# EAGLE library part MAX17043 (library SomTest1)
MAX17043X+T10 9-UCSP (W91C1+1) package https://www.mouser.com/ProductDetail/Maxim-Integrated/MAX17043X%2bT10?qs=sGAEpiMZZMtKiEBa%2FXu9%252BOav9R4qKwGZ Connect CTG and QSTRT to GND. /ALRT is output can leave unconnected.
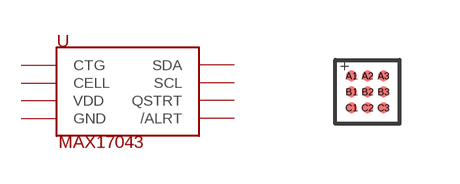
[diagram p1: symbol with the pads of 9UCSP-MAXIM; footprint 9UCSP-MAXIM]

Designator prefix U

## MAX17043 (VALUE: MAX17043)  [9UCSP-MAXIM]
A1  SDA
A2  SCL
A3  CTG  sup
B1  QSTRT  in
B3  CELL  pwr
C1  /ALRT  out
C2  VDD  pwr
C3  GND  sup

## Footprint 9UCSP-MAXIM (pad centres in mm)
smd 0.27 x 0.27: A1 -0.4,0.4; A2 0,0.4; A3 0.4,0.4; B1 -0.4,0; B2 0,0; B3 0.4,0; C1 -0.4,-0.4; C2 0,-0.4; C3 0.4,-0.4